# EAGLE library part WIREBOND-NEW (library WIREBOND-NEW)
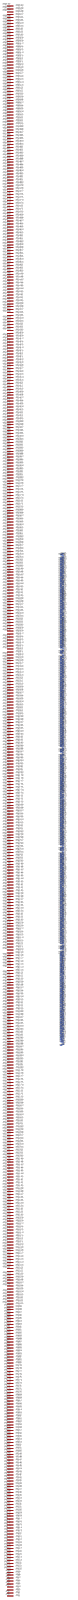
[diagram p0: symbol with the pads of WIREBOND-NEW; footprint WIREBOND-NEW]

Designator prefix -

## WIREBOND-NEW  [WIREBOND-NEW]
P$1  P$1
P$2  P$2
P$4  P$4
P$5  P$5
P$6  P$6
P$7  P$7
P$8  P$8
P$9  P$9
P$10  P$10
P$11  P$11
P$12  P$12
P$13  P$13
P$14  P$14
P$15  P$15
P$16  P$16
P$17  P$17
P$18  P$18
P$19  P$19
P$20  P$20
P$21  P$21
P$22  P$22
P$23  P$23
P$24  P$24
P$25  P$25
P$26  P$26
P$27  P$27
P$28  P$28
P$29  P$29
P$30  P$30
P$31  P$31
P$32  P$32
P$33  P$33
P$34  P$34
P$35  P$35
P$36  P$36
P$37  P$37
P$38  P$38
P$39  P$39
P$40  P$40
P$41  P$41
P$42  P$42
P$43  P$43
P$44  P$44
P$45  P$45
P$46  P$46
P$47  P$47
P$48  P$48
P$49  P$49
P$50  P$50
P$51  P$51
P$52  P$52
P$53  P$53
P$54  P$54
P$55  P$55
P$56  P$56
P$57  P$57
P$58  P$58
P$59  P$59
P$60  P$60
P$61  P$61
P$62  P$62
P$63  P$63
P$64  P$64
P$65  P$65
P$66  P$66
P$67  P$67
P$68  P$68
P$69  P$69
P$70  P$70
P$71  P$71
P$72  P$72
P$73  P$73
P$74  P$74
P$75  P$75
P$76  P$76
P$77  P$77
P$78  P$78
P$79  P$79
P$80  P$80
P$81  P$81
P$82  P$82
P$83  P$83
P$84  P$84
P$85  P$85
P$86  P$86
P$87  P$87
P$88  P$88
P$89  P$89
P$90  P$90
P$91  P$91
P$92  P$92
P$93  P$93
P$94  P$94
P$95  P$95
P$96  P$96
P$97  P$97
P$98  P$98
P$99  P$99
P$100  P$100
P$101  P$101
P$102  P$102
P$103  P$103
P$104  P$104
P$106  P$106
P$107  P$107
P$108  P$108
P$109  P$109
P$110  P$110
P$112  P$112
P$113  P$113
P$114  P$114
P$115  P$115
P$116  P$116
P$117  P$117
P$118  P$118
P$119  P$119
P$120  P$120
P$121  P$121
P$122  P$122
P$123  P$123
P$124  P$124
P$125  P$125
P$126  P$126
P$127  P$127
P$128  P$128
P$129  P$129
P$130  P$130
P$131  P$131
P$132  P$132
P$133  P$133
P$134  P$134
P$135  P$135
P$136  P$136
P$137  P$137
P$138  P$138
P$139  P$139
P$140  P$140
P$141  P$141
P$142  P$142
P$143  P$143
P$144  P$144
P$145  P$145
P$146  P$146
P$147  P$147
P$148  P$148
P$149  P$149
P$150  P$150
P$151  P$151
P$152  P$152
P$153  P$153
P$154  P$154
P$155  P$155
P$156  P$156
P$157  P$157
P$158  P$158
P$159  P$159
P$160  P$160
P$161  P$161
P$162  P$162
P$163  P$163
P$164  P$164
P$165  P$165
P$166  P$166
P$167  P$167
P$168  P$168
P$169  P$169
P$170  P$170
P$171  P$171
P$172  P$172
P$173  P$173
P$174  P$174
P$175  P$175
P$176  P$176
P$177  P$177
P$178  P$178
P$179  P$179
P$180  P$180
P$181  P$181
P$182  P$182
P$183  P$183
P$184  P$184
P$185  P$185
P$186  P$186
P$187  P$187
P$188  P$188
P$189  P$189
P$190  P$190
P$191  P$191
P$192  P$192
P$193  P$193
P$194  P$194
P$195  P$195
P$196  P$196
P$197  P$197
P$198  P$198
P$199  P$199
P$200  P$200
P$201  P$201
P$202  P$202
P$203  P$203
P$204  P$204
P$205  P$205
P$206  P$206
P$207  P$207
P$208  P$208
P$209  P$209
P$210  P$210
P$211  P$211
P$212  P$212
P$214  P$214
P$215  P$215
P$216  P$216
P$217  P$217
P$218  P$218
P$220  P$220
P$221  P$221
P$222  P$222
P$223  P$223
P$224  P$224
P$225  P$225
P$226  P$226
P$227  P$227
P$228  P$228
P$229  P$229
P$230  P$230
P$231  P$231
P$232  P$232
P$233  P$233
P$234  P$234
P$235  P$235
P$236  P$236
P$237  P$237
P$238  P$238
P$239  P$239
P$240  P$240
P$241  P$241
P$242  P$242
P$243  P$243
P$244  P$244
P$245  P$245
P$246  P$246
P$247  P$247
P$248  P$248
P$249  P$249
P$250  P$250
P$251  P$251
P$252  P$252
P$253  P$253
P$254  P$254
P$255  P$255
P$256  P$256
P$257  P$257
P$258  P$258
P$259  P$259
P$260  P$260
P$261  P$261
P$262  P$262
P$263  P$263
P$264  P$264
P$265  P$265
P$266  P$266
P$267  P$267
P$268  P$268
P$269  P$269
P$270  P$270
P$271  P$271
P$272  P$272
P$273  P$273
P$274  P$274
P$275  P$275
P$276  P$276
P$277  P$277
P$278  P$278
P$279  P$279
P$280  P$280
P$281  P$281
P$282  P$282
P$283  P$283
P$284  P$284
P$285  P$285
P$286  P$286
P$287  P$287
P$288  P$288
P$289  P$289
P$290  P$290
P$291  P$291
P$292  P$292
P$293  P$293
P$294  P$294
P$295  P$295
P$296  P$296
P$297  P$297
P$298  P$298
P$299  P$299
P$300  P$300
P$301  P$301
P$302  P$302
P$303  P$303
P$304  P$304
P$305  P$305
P$306  P$306
P$307  P$307
P$308  P$308
P$309  P$309
P$310  P$310
P$311  P$311
P$312  P$312
P$313  P$313
P$314  P$314
P$315  P$315
P$316  P$316
P$317  P$317
P$318  P$318
P$319  P$319
P$320  P$320
P$322  P$322
P$323  P$323
P$324  P$324
P$325  P$325
P$326  P$326
P$328  P$328
P$329  P$329
P$330  P$330
P$331  P$331
P$332  P$332
P$333  P$333
P$334  P$334
P$335  P$335
P$336  P$336
P$337  P$337
P$338  P$338
P$339  P$339
P$340  P$340
P$341  P$341
P$342  P$342
P$343  P$343
P$344  P$344
P$345  P$345
P$346  P$346
P$347  P$347
P$348  P$348
P$349  P$349
P$350  P$350
P$351  P$351
P$352  P$352
P$353  P$353
P$354  P$354
P$355  P$355
P$356  P$356
P$357  P$357
P$358  P$358
P$359  P$359
P$360  P$360
P$361  P$361
P$362  P$362
P$363  P$363
P$364  P$364
P$365  P$365
P$366  P$366
P$367  P$367
P$368  P$368
P$369  P$369
P$370  P$370
P$371  P$371
P$372  P$372
P$373  P$373
P$374  P$374
P$375  P$375
P$376  P$376
P$377  P$377
P$378  P$378
P$379  P$379
P$380  P$380
P$381  P$381
P$382  P$382
P$383  P$383
P$384  P$384
P$385  P$385
P$386  P$386
P$387  P$387
P$388  P$388
P$389  P$389
P$390  P$390
P$391  P$391
P$392  P$392
P$393  P$393
P$394  P$394
P$395  P$395
P$396  P$396
P$397  P$397
P$398  P$398
P$399  P$399
P$400  P$400
P$401  P$401
P$402  P$402
P$403  P$403
P$404  P$404
P$405  P$405
P$406  P$406
P$407  P$407
P$408  P$408
P$409  P$409
P$410  P$410
P$411  P$411
P$412  P$412
P$413  P$413
P$414  P$414
P$415  P$415
P$416  P$416
P$417  P$417
P$418  P$418
P$419  P$419
P$420  P$420
P$421  P$421
P$422  P$422
P$423  P$423
P$424  P$424
P$425  P$425
P$426  P$426
P$427  P$427
P$428  P$428
P$430  P$430
P$431  P$431
P$432  P$432
P$433  P$433
P$434  P$434
P$436  P$436
P$437  P$437
P$438  P$438
P$439  P$439
P$440  P$440
P$441  P$441
P$442  P$442
P$443  P$443
P$444  P$444
P$445  P$445
P$446  P$446
P$447  P$447
P$448  P$448
P$449  P$449
P$450  P$450
P$451  P$451
P$452  P$452
P$453  P$453
P$454  P$454
P$455  P$455
P$456  P$456
P$457  P$457
P$458  P$458
P$459  P$459
P$460  P$460
P$461  P$461
P$462  P$462
P$463  P$463
P$464  P$464
P$465  P$465
P$466  P$466
P$467  P$467
P$468  P$468
P$469  P$469
P$470  P$470
P$471  P$471
P$472  P$472
P$473  P$473
P$474  P$474
P$475  P$475
P$476  P$476
P$477  P$477
P$478  P$478
P$479  P$479
P$480  P$480
P$481  P$481
P$482  P$482
P$483  P$483
P$484  P$484
P$485  P$485
P$486  P$486
P$487  P$487
P$488  P$488
P$489  P$489
P$490  P$490
P$491  P$491
P$492  P$492
P$493  P$493
P$494  P$494
P$495  P$495
P$496  P$496
P$497  P$497
P$498  P$498
P$499  P$499
P$500  P$500
P$501  P$501
P$502  P$502
P$503  P$503
P$504  P$504
P$505  P$505
P$506  P$506
P$507  P$507
P$508  P$508
P$509  P$509
P$510  P$510
P$511  P$511
P$512  P$512
P$513  P$513
P$514  P$514
P$515  P$515
P$516  P$516
P$517  P$517
P$518  P$518
P$519  P$519
P$520  P$520
P$521  P$521
P$522  P$522
P$523  P$523
P$524  P$524
P$525  P$525
P$526  P$526
P$527  P$527
P$528  P$528
P$529  P$529
P$530  P$530
P$531  P$531
P$532  P$532
P$533  P$533
P$534  P$534
P$535  P$535
P$536  P$536
P$538  P$538
P$539  P$539
P$540  P$540

## Footprint WIREBOND-NEW (pad centres in mm)
smd 0.18 x 0.12 bottom: P$1 0,0; P$5 0,0.4; P$7 0,0.6; P$9 0,0.8; P$11 0,1; P$13 0,1.2; P$15 0,1.4; P$17 0,1.6; P$19 0,1.8; P$21 0,2; P$23 0,2.2; P$25 0,2.4; P$27 0,2.6; P$29 0,2.8; P$31 0,3; P$33 0,3.2; P$35 0,3.4; P$37 0,3.6; P$39 0,3.8; P$41 0,4; P$43 0,4.2; P$45 0,4.4; P$47 0,4.6; P$49 0,4.8; P$51 0,5; P$53 0,5.2; P$55 0,5.4; P$57 0,5.6; P$59 0,5.8; P$61 0,6; P$63 0,6.2; P$65 0,6.4; P$67 0,6.6; P$69 0,6.8; P$71 0,7; P$73 0,7.2; P$75 0,7.4; P$77 0,7.6; P$79 0,7.8; P$81 0,8; P$83 0,8.2; P$85 0,8.4; P$87 0,8.6; P$89 0,8.8; P$91 0,9; P$93 0,9.2; P$95 0,9.4; P$97 0,9.6; P$99 0,9.8; P$101 0,10; P$103 0,10.2; P$107 0,10.6; P$109 0,10.8; P$113 0,11.2; P$115 0,11.4; P$117 0,11.6; P$119 0,11.8; P$121 0,12; P$123 0,12.2; P$125 0,12.4; P$127 0,12.6; P$129 0,12.8; P$131 0,13; P$133 0,13.2; P$135 0,13.4; P$137 0,13.6; P$139 0,13.8; P$141 0,14; P$143 0,14.2; P$145 0,14.4; P$147 0,14.6; P$149 0,14.8; P$151 0,15; P$153 0,15.2; P$155 0,15.4; P$157 0,15.6; P$159 0,15.8; P$161 0,16; P$163 0,16.2; P$165 0,16.4; P$167 0,16.6; P$169 0,16.8; P$171 0,17; P$173 0,17.2; P$175 0,17.4; P$177 0,17.6; P$179 0,17.8; P$181 0,18; P$183 0,18.2; P$185 0,18.4; P$187 0,18.6; P$189 0,18.8; P$191 0,19; P$193 0,19.2; P$195 0,19.4; P$197 0,19.6; P$199 0,19.8; P$201 0,20; P$203 0,20.2; P$205 0,20.4; P$207 0,20.6; P$209 0,20.8; P$211 0,21; P$215 0,21.4; P$217 0,21.6; P$221 0,22; P$223 0,22.2; P$225 0,22.4; P$227 0,22.6; P$229 0,22.8; P$231 0,23; P$233 0,23.2; P$235 0,23.4; P$237 0,23.6; P$239 0,23.8; P$241 0,24; P$243 0,24.2; P$245 0,24.4; P$247 0,24.6; P$249 0,24.8; P$251 0,25; P$253 0,25.2; P$255 0,25.4; P$257 0,25.6; P$259 0,25.8; P$261 0,26; P$263 0,26.2; P$265 0,26.4; P$267 0,26.6; P$269 0,26.8; P$271 0,27; P$273 0,27.2; P$275 0,27.4; P$277 0,27.6; P$279 0,27.8; P$281 0,28; P$283 0,28.2; P$285 0,28.4; P$287 0,28.6; P$289 0,28.8; P$291 0,29; P$293 0,29.2; P$295 0,29.4; P$297 0,29.6; P$299 0,29.8; P$301 0,30; P$303 0,30.2; P$305 0,30.4; P$307 0,30.6; P$309 0,30.8; P$311 0,31; P$313 0,31.2; P$315 0,31.4; P$317 0,31.6; P$319 0,31.8; P$323 0,32.2; P$325 0,32.4; P$329 0,32.8; P$331 0,33; P$333 0,33.2; P$335 0,33.4; P$337 0,33.6; P$339 0,33.8; P$341 0,34; P$343 0,34.2; P$345 0,34.4; P$347 0,34.6; P$349 0,34.8; P$351 0,35; P$353 0,35.2; P$355 0,35.4; P$357 0,35.6; P$359 0,35.8; P$361 0,36; P$363 0,36.2; P$365 0,36.4; P$367 0,36.6; P$369 0,36.8; P$371 0,37; P$373 0,37.2; P$375 0,37.4; P$377 0,37.6; P$379 0,37.8; P$381 0,38; P$383 0,38.2; P$385 0,38.4; P$387 0,38.6; P$389 0,38.8; P$391 0,39; P$393 0,39.2; P$395 0,39.4; P$397 0,39.6; P$399 0,39.8; P$401 0,40; P$403 0,40.2; P$405 0,40.4; P$407 0,40.6; P$409 0,40.8; P$411 0,41; P$413 0,41.2; P$415 0,41.4; P$417 0,41.6; P$419 0,41.8; P$421 0,42; P$423 0,42.2; P$425 0,42.4; P$427 0,42.6; P$431 0,43; P$433 0,43.2; P$437 0,43.6; P$439 0,43.8; P$441 0,44; P$443 0,44.2; P$445 0,44.4; P$447 0,44.6; P$449 0,44.8; P$451 0,45; P$453 0,45.2; P$455 0,45.4; P$457 0,45.6; P$459 0,45.8; P$461 0,46; P$463 0,46.2; P$465 0,46.4; P$467 0,46.6; P$469 0,46.8; P$471 0,47; P$473 0,47.2; P$475 0,47.4; P$477 0,47.6; P$479 0,47.8; P$481 0,48; P$483 0,48.2; P$485 0,48.4; P$487 0,48.6; P$489 0,48.8; P$491 0,49; P$493 0,49.2; P$495 0,49.4; P$497 0,49.6; P$499 0,49.8; P$501 0,50; P$503 0,50.2; P$505 0,50.4; P$507 0,50.6; P$509 0,50.8; P$511 0,51; P$513 0,51.2; P$515 0,51.4; P$517 0,51.6; P$519 0,51.8; P$521 0,52; P$523 0,52.2; P$525 0,52.4; P$527 0,52.6; P$529 0,52.8; P$531 0,53; P$533 0,53.2; P$535 0,53.4; P$539 0,53.8
smd 0.18 x 0.08 bottom: P$2 0.22,0.1; P$4 0.22,0.3; P$6 0.22,0.5; P$8 0.22,0.7; P$10 0.22,0.9; P$12 0.22,1.1; P$14 0.22,1.3; P$16 0.22,1.5; P$18 0.22,1.7; P$20 0.22,1.9; P$22 0.22,2.1; P$24 0.22,2.3; P$26 0.22,2.5; P$28 0.22,2.7; P$30 0.22,2.9; P$32 0.22,3.1; P$34 0.22,3.3; P$36 0.22,3.5; P$38 0.22,3.7; P$40 0.22,3.9; P$42 0.22,4.1; P$44 0.22,4.3; P$46 0.22,4.5; P$48 0.22,4.7; P$50 0.22,4.9; P$52 0.22,5.1; P$54 0.22,5.3; P$56 0.22,5.5; P$58 0.22,5.7; P$60 0.22,5.9; P$62 0.22,6.1; P$64 0.22,6.3; P$66 0.22,6.5; P$68 0.22,6.7; P$70 0.22,6.9; P$72 0.22,7.1; P$74 0.22,7.3; P$76 0.22,7.5; P$78 0.22,7.7; P$80 0.22,7.9; P$82 0.22,8.1; P$84 0.22,8.3; P$86 0.22,8.5; P$88 0.22,8.7; P$90 0.22,8.9; P$92 0.22,9.1; P$94 0.22,9.3; P$96 0.22,9.5; P$98 0.22,9.7; P$100 0.22,9.9; P$102 0.22,10.1; P$104 0.22,10.3; P$106 0.22,10.5; P$108 0.22,10.7; P$110 0.22,10.9; P$112 0.22,11.1; P$114 0.22,11.3; P$116 0.22,11.5; P$118 0.22,11.7; P$120 0.22,11.9; P$122 0.22,12.1; P$124 0.22,12.3; P$126 0.22,12.5; P$128 0.22,12.7; P$130 0.22,12.9; P$132 0.22,13.1; P$134 0.22,13.3; P$136 0.22,13.5; P$138 0.22,13.7; P$140 0.22,13.9; P$142 0.22,14.1; P$144 0.22,14.3; P$146 0.22,14.5; P$148 0.22,14.7; P$150 0.22,14.9; P$152 0.22,15.1; P$154 0.22,15.3; P$156 0.22,15.5; P$158 0.22,15.7; P$160 0.22,15.9; P$162 0.22,16.1; P$164 0.22,16.3; P$166 0.22,16.5; P$168 0.22,16.7; P$170 0.22,16.9; P$172 0.22,17.1; P$174 0.22,17.3; P$176 0.22,17.5; P$178 0.22,17.7; P$180 0.22,17.9; P$182 0.22,18.1; P$184 0.22,18.3; P$186 0.22,18.5; P$188 0.22,18.7; P$190 0.22,18.9; P$192 0.22,19.1; P$194 0.22,19.3; P$196 0.22,19.5; P$198 0.22,19.7; P$200 0.22,19.9; P$202 0.22,20.1; P$204 0.22,20.3; P$206 0.22,20.5; P$208 0.22,20.7; P$210 0.22,20.9; P$212 0.22,21.1; P$214 0.22,21.3; P$216 0.22,21.5; P$218 0.22,21.7; P$220 0.22,21.9; P$222 0.22,22.1; P$224 0.22,22.3; P$226 0.22,22.5; P$228 0.22,22.7; P$230 0.22,22.9; P$232 0.22,23.1; P$234 0.22,23.3; P$236 0.22,23.5; P$238 0.22,23.7; P$240 0.22,23.9; P$242 0.22,24.1; P$244 0.22,24.3; P$246 0.22,24.5; P$248 0.22,24.7; P$250 0.22,24.9; P$252 0.22,25.1; P$254 0.22,25.3; P$256 0.22,25.5; P$258 0.22,25.7; P$260 0.22,25.9; P$262 0.22,26.1; P$264 0.22,26.3; P$266 0.22,26.5; P$268 0.22,26.7; P$270 0.22,26.9; P$272 0.22,27.1; P$274 0.22,27.3; P$276 0.22,27.5; P$278 0.22,27.7; P$280 0.22,27.9; P$282 0.22,28.1; P$284 0.22,28.3; P$286 0.22,28.5; P$288 0.22,28.7; P$290 0.22,28.9; P$292 0.22,29.1; P$294 0.22,29.3; P$296 0.22,29.5; P$298 0.22,29.7; P$300 0.22,29.9; P$302 0.22,30.1; P$304 0.22,30.3; P$306 0.22,30.5; P$308 0.22,30.7; P$310 0.22,30.9; P$312 0.22,31.1; P$314 0.22,31.3; P$316 0.22,31.5; P$318 0.22,31.7; P$320 0.22,31.9; P$322 0.22,32.1; P$324 0.22,32.3; P$326 0.22,32.5; P$328 0.22,32.7; P$330 0.22,32.9; P$332 0.22,33.1; P$334 0.22,33.3; P$336 0.22,33.5; P$338 0.22,33.7; P$340 0.22,33.9; P$342 0.22,34.1; P$344 0.22,34.3; P$346 0.22,34.5; P$348 0.22,34.7; P$350 0.22,34.9; P$352 0.22,35.1; P$354 0.22,35.3; P$356 0.22,35.5; P$358 0.22,35.7; P$360 0.22,35.9; P$362 0.22,36.1; P$364 0.22,36.3; P$366 0.22,36.5; P$368 0.22,36.7; P$370 0.22,36.9; P$372 0.22,37.1; P$374 0.22,37.3; P$376 0.22,37.5; P$378 0.22,37.7; P$380 0.22,37.9; P$382 0.22,38.1; P$384 0.22,38.3; P$386 0.22,38.5; P$388 0.22,38.7; P$390 0.22,38.9; P$392 0.22,39.1; P$394 0.22,39.3; P$396 0.22,39.5; P$398 0.22,39.7; P$400 0.22,39.9; P$402 0.22,40.1; P$404 0.22,40.3; P$406 0.22,40.5; P$408 0.22,40.7; P$410 0.22,40.9; P$412 0.22,41.1; P$414 0.22,41.3; P$416 0.22,41.5; P$418 0.22,41.7; P$420 0.22,41.9; P$422 0.22,42.1; P$424 0.22,42.3; P$426 0.22,42.5; P$428 0.22,42.7; P$430 0.22,42.9; P$432 0.22,43.1; P$434 0.22,43.3; P$436 0.22,43.5; P$438 0.22,43.7; P$440 0.22,43.9; P$442 0.22,44.1; P$444 0.22,44.3; P$446 0.22,44.5; P$448 0.22,44.7; P$450 0.22,44.9; P$452 0.22,45.1; P$454 0.22,45.3; P$456 0.22,45.5; P$458 0.22,45.7; P$460 0.22,45.9; P$462 0.22,46.1; P$464 0.22,46.3; P$466 0.22,46.5; P$468 0.22,46.7; P$470 0.22,46.9; P$472 0.22,47.1; P$474 0.22,47.3; P$476 0.22,47.5; P$478 0.22,47.7; P$480 0.22,47.9; P$482 0.22,48.1; P$484 0.22,48.3; P$486 0.22,48.5; P$488 0.22,48.7; P$490 0.22,48.9; P$492 0.22,49.1; P$494 0.22,49.3; P$496 0.22,49.5; P$498 0.22,49.7; P$500 0.22,49.9; P$502 0.22,50.1; P$504 0.22,50.3; P$506 0.22,50.5; P$508 0.22,50.7; P$510 0.22,50.9; P$512 0.22,51.1; P$514 0.22,51.3; P$516 0.22,51.5; P$518 0.22,51.7; P$520 0.22,51.9; P$522 0.22,52.1; P$524 0.22,52.3; P$526 0.22,52.5; P$528 0.22,52.7; P$530 0.22,52.9; P$532 0.22,53.1; P$534 0.22,53.3; P$536 0.22,53.5; P$538 0.22,53.7; P$540 0.22,53.9